# Altium schematic symbol library TLV755P.SchLib: 1 symbol
Pins are listed as number, name and electrical type; pins without a type are passive.

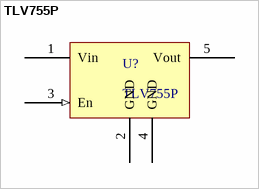
[diagram p0: symbol TLV755P]

## TLV755P
designator U?
pins: 1 Vin (power), 2 GND, 3 En (in), 4 GND, 5 Vout (power)